# Altium footprint library C1210.PcbLib: 2 footprints
Each footprint in its own frame and in the unit in brackets; x right, y up, seen from the top. Pads: shape width x height; smd on the part's side, far side on the other; paste and mask are expansions set on the pad; w line width, h text height; cw(c..) or ccw(c..) is an arc to the next point about the centre after c.
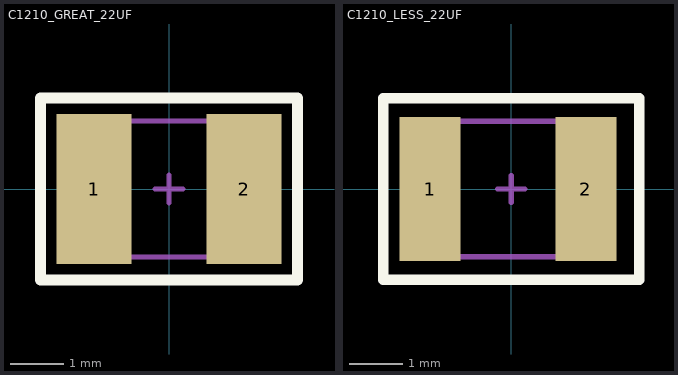
[diagram p0: the footprints below, top view; thin cyan lines are the x and y axes]

## C1210_GREAT_22UF [mm] "A generic C1210 footprint (>22uF)"
height 1.5
pads (2):
  rect 1.4x2.8 smd mask+0: 1(-1.4,0) 2(1.4,0)
Top Overlay:
  lines w0.2: -2.4,-1.7 -2.4,1.7 2.4,1.7 2.4,-1.7 -2.4,-1.7
Top Designator:
  text ".Designator" at -7.618,-0.508 h1.52
Mechanical 13:
  lines w0.1: -1.651,-1.27 1.651,-1.27 1.651,1.27 -1.651,1.27 -1.651,-1.27
Mechanical 15:
  lines w0.1: -0.254,0 0.254,0 0,0 ; 0,0.254 0,0 ; 0,0 0,-0.254 0,0
3D body "CAP1210_G1210.stp": height 0.94, standoff 0, extent -1.6,-1.25 1.6,1.25

## C1210_LESS_22UF [mm] "A generic 1210 footprint"
height 2
pads (2):
  rect 1.15x2.7 smd mask+0: 1(-1.524,0) 2(1.4,0)
Top Overlay:
  lines w0.2: -2.4,-1.7 -2.4,1.7 2.4,1.7 2.4,-1.7 -2.4,-1.7
Top Designator:
  text ".Designator" at -7.68,-0.508 h1.52
Mechanical 13:
  lines w0.1: -1.651,-1.27 -1.651,1.27 1.651,1.27 1.651,-1.27 -1.651,-1.27
Mechanical 15:
  lines w0.1: -0.254,0 0,0 ; 0,-0.254 0,0 ; 0,0.254 0,0 ; 0.254,0 0,0
3D body "CAP1210_L1210.stp": height 2.5, standoff 0, extent -1.6,-1.25 1.6,1.25